# Altium footprint library PCB.PCBLIB: 320 footprints (part 17 of 20)
Each footprint in its own frame and in the unit in brackets; x right, y up, seen from the top. Pads: shape width x height; smd on the part's side, far side on the other; paste and mask are expansions set on the pad; w line width, h text height; cw(c..) or ccw(c..) is an arc to the next point about the centre after c.
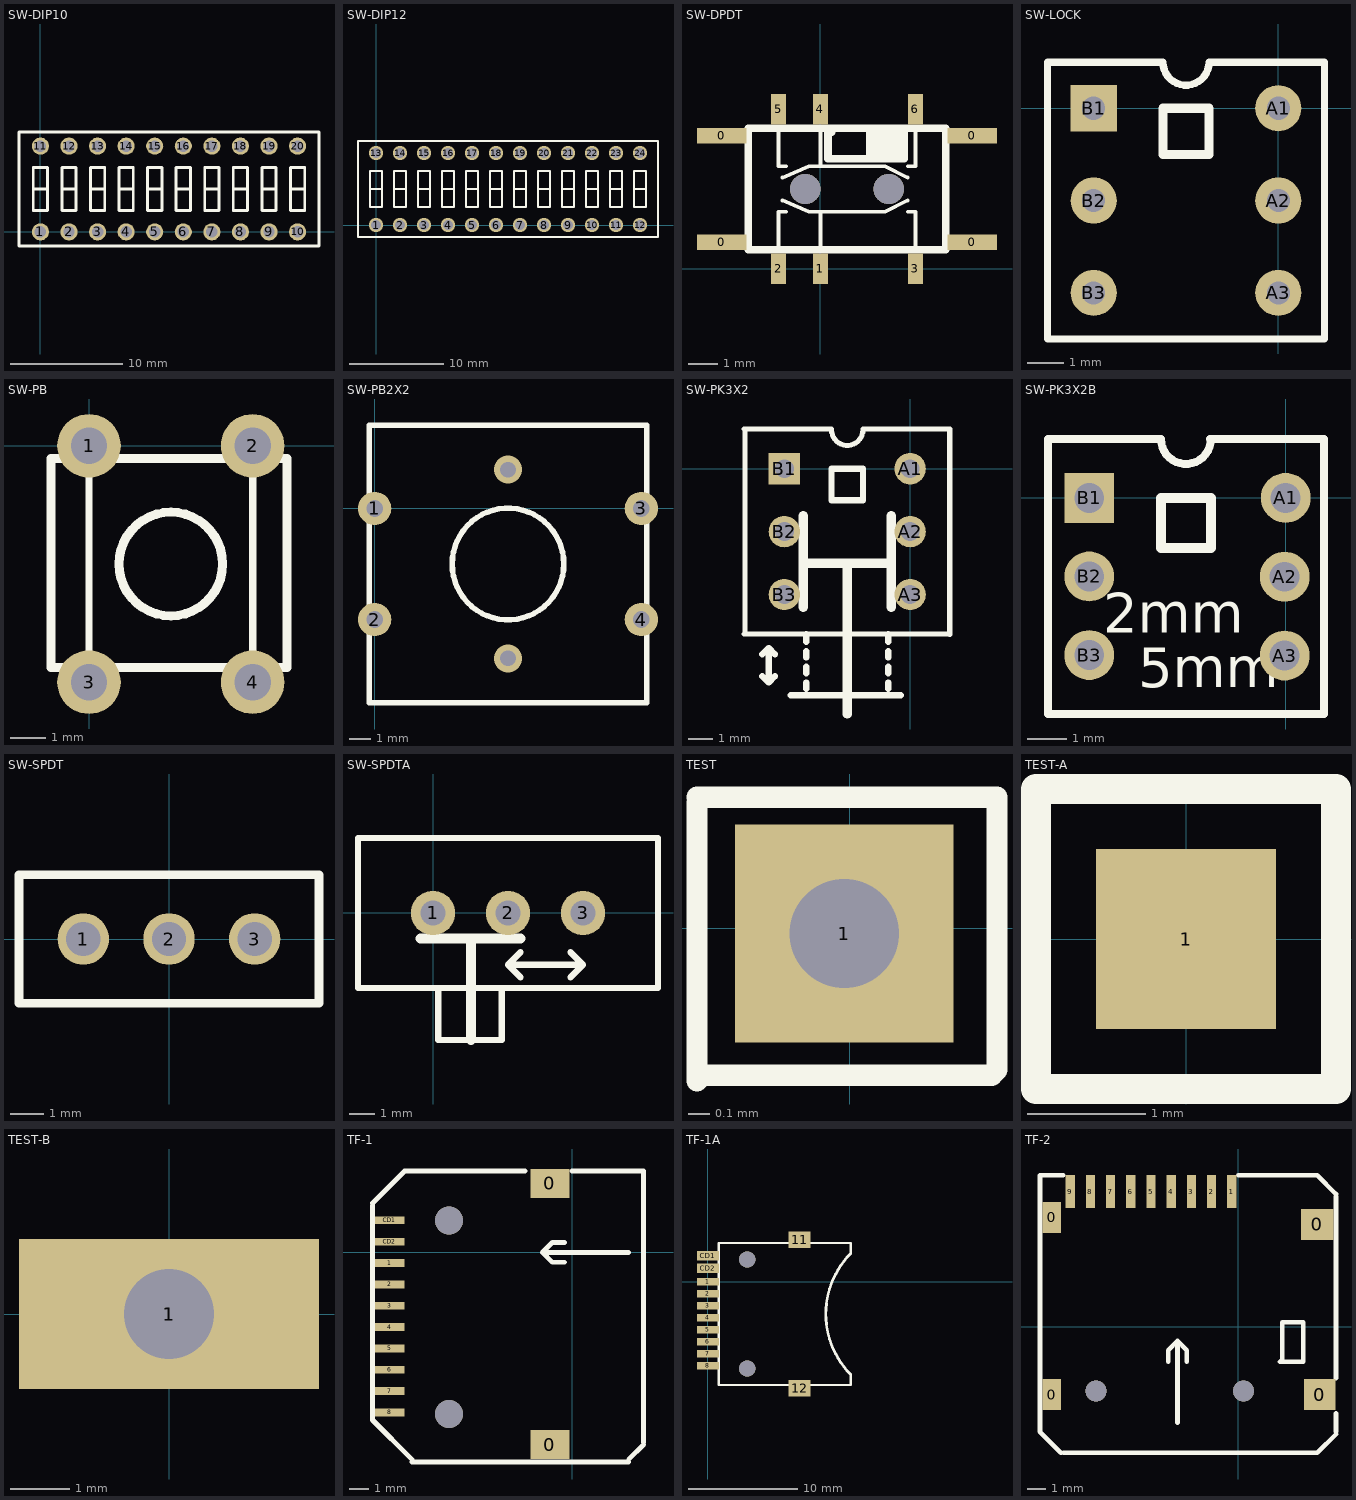
[diagram p16: the footprints below, top view; thin cyan lines are the x and y axes]

## SW-DIP10 [mil]
pads (20):
  round 60 hole 40: 1(0,0) 2(100,0) 3(200,0) 4(300,0) 5(400,0) 6(500,0) 7(600,0) 8(700,0) 9(800,0) 10(900,0) 11(0,300) 12(100,300) 13(200,300) 14(300,300) 15(400,300) 16(500,300) 17(600,300) 18(700,300) 19(800,300) 20(900,300)
TopOverlay:
  lines w10: 25,150 -25,150 -25,225 ; 125,150 75,150 75,225 ; 225,150 175,150 175,225 ; 325,150 275,150 275,225 ; 425,150 375,150 375,225 ; 525,150 475,150 475,225 ; 625,150 575,150 575,225 ; 725,150 675,150 675,225 ; 825,150 775,150 775,225 ; 925,150 875,150 875,225 ; -25,225 -25,75 25,75 25,225 -25,225 ; 75,225 75,75 125,75 125,225 75,225 ; 175,225 175,75 225,75 225,225 175,225 ; 275,225 275,75 325,75 325,225 275,225 ; 375,225 375,75 425,75 425,225 375,225 ; 475,225 475,75 525,75 525,225 475,225 ; 575,225 575,75 625,75 625,225 575,225 ; 675,225 675,75 725,75 725,225 675,225 ; 775,225 775,75 825,75 825,225 775,225 ; 875,225 875,75 925,75 925,225 875,225 ; -75,-50 975,-50 975,350 -75,350 -75,-50

## SW-DIP12 [mil]
pads (24):
  round 60 hole 40: 1(0,0) 2(100,0) 3(200,0) 4(300,0) 5(400,0) 6(500,0) 7(600,0) 8(700,0) 9(800,0) 10(900,0) 11(1000,0) 12(1100,0) 13(0,300) 14(100,300) 15(200,300) 16(300,300) 17(400,300) 18(500,300) 19(600,300) 20(700,300) 21(800,300) 22(900,300) 23(1000,300) 24(1100,300)
TopOverlay:
  lines w10: 25,150 -25,150 -25,225 ; 125,150 75,150 75,225 ; 225,150 175,150 175,225 ; 325,150 275,150 275,225 ; 425,150 375,150 375,225 ; 525,150 475,150 475,225 ; 625,150 575,150 575,225 ; 725,150 675,150 675,225 ; 825,150 775,150 775,225 ; 925,150 875,150 875,225 ; 1025,150 975,150 975,225 ; 1125,150 1075,150 1075,225 ; -25,225 -25,75 25,75 25,225 -25,225 ; 75,225 75,75 125,75 125,225 75,225 ; 175,225 175,75 225,75 225,225 175,225 ; 275,225 275,75 325,75 325,225 275,225 ; 375,225 375,75 425,75 425,225 375,225 ; 475,225 475,75 525,75 525,225 475,225 ; 575,225 575,75 625,75 625,225 575,225 ; 675,225 675,75 725,75 725,225 675,225 ; 775,225 775,75 825,75 825,225 775,225 ; 875,225 875,75 925,75 925,225 875,225 ; 975,225 975,75 1025,75 1025,225 975,225 ; 1075,225 1075,75 1125,75 1125,225 1075,225 ; -75,-50 1175,-50 1175,350 -75,350 -75,-50

## SW-DPDT [mil]
pads (10):
  rect 65x20 smd: 0(-130,35) 0(-130,175) 0(200,35) 0(200,175)
  rect 20x40 smd: 1(0,0) 2(-55,0) 3(125,0) 4(0,210) 5(-55,210) 6(125,210)
via 90,105 diameter 40 hole 40
via -20,105 diameter 40 hole 40
TopOverlay:
  lines w5: -55,25 -55,75 -45,75 ; -55,185 -55,135 -45,135 ; -50,90 -15,75 85,75 115,90 ; -50,120 -15,135 0,135 ; 0,25 0,75 ; 0,185 0,135 ; 90,180 95,180 ; 115,75 125,75 125,25 ; 115,120 85,135 0,135 ; 115,135 125,135 125,185
  lines w10: 15,180 10,180 10,145 110,145 110,180 ; 65,145 65,180 ; 100,145 100,180 90,180 90,145 80,145 80,180 70,180 70,145 105,145 105,180 ; -95,25 -95,185 165,185 165,25 -95,25

## SW-LOCK [mil]
pads (6):
  round 50 hole 25: A1(0,0) A2(0,-100) A3(0,-200) B2(-200,-100) B3(-200,-200)
  rect 50x50 hole 25: B1(-200,0)
TopOverlay:
  lines w8: -250,-250 50,-250 50,50 -75,50 cw(c-100,50) -125,50 -250,50 -250,-250
  lines w10: -125,-50 -75,-50 -75,0 -125,0 -125,-50

## SW-PB [mil]
pads (4):
  round 70 hole 40: 1(0,0) 2(180,0) 3(0,-260) 4(180,-260)
TopOverlay:
  circle w10: c89.99,-130 r57.01
  lines w8: 0,-225 0,-35 ; 180,-225 180,-35
  lines w10: -42,-244 -42,-14 218,-14 218,-244 -42,-244

## SW-PB2X2 [mil]
pads (4):
  round 60 hole 30: 1(0,0) 2(0,-200) 3(480,0) 4(480,-200)
via 240,-270 diameter 50 hole 28
via 240,70 diameter 50 hole 28
TopOverlay:
  circle w10: c240,-100 r100.5
  lines w10: -10,-350 490,-350 490,150 240,150 -10,150 -10,-350

## SW-PK3X2 [mil]
pads (6):
  round 50 hole 30: A1(0,0) A2(0,-100) A3(0,-200) B2(-200,-100) B3(-200,-200)
  rect 50x50 hole 30: B1(-200,0)
TopOverlay:
  lines w8: -263.78,-262.8 62.99,-262.8 ; -263.78,62.99 -125,62.99 ; -262.8,-261.81 -262.8,61.02 ; -125,62.01 ccw(c-100,62.01) -75,62.01 ; -75,62.99 62.99,62.99 62.99,-263.78
  lines w10: -235,-330 -225,-340 ; -235,-295 -225,-285 ; -215,-330 -225,-340 ; -215,-295 -225,-285 ; -190,-360 -15,-360 ; -165,-350 -165,-340 ; -165,-325 -165,-315 ; -165,-300 -165,-290 ; -165,-270 -165,-275 -165,-262.8 ; -35,-350 -35,-340 ; -35,-325 -35,-315 ; -35,-300 -35,-290 ; -35,-275 -35,-262.8 ; -225,-340 -225,-285 ; -125,-50 -75,-50 -75,0 -125,0 -125,-50
  lines w15: -170,-220 -170,-75 ; -170,-150 -35,-150 ; -100,-390 -100,-150 ; -30,-220 -30,-75

## SW-PK3X2B [mil]
pads (6):
  round 50 hole 30: A1(0,0) A2(-1,-79) A3(-1,-158) B2(-196.85,-78.74) B3(-196.85,-157.48)
  rect 50x50 hole 30: B1(-196.85,0)
TopOverlay:
  lines w8: -238.19,-216.53 -238.19,59.05 ; -238,59.05 -125,59.05 ccw(c-100,59.05) -75,59.05 ; -237.21,-216.53 37.8,-216.53 ; -75.8,59.05 36,59.05 ; 38.39,-216.53 38.39,59.05
  lines w10: -125,-50 -75,-50 -75,0 -125,0 -125,-50
  text "2mm" at -183,-135 h40
  text "5mm" at -147.64,-189.96 h40

## SW-SPDT [mil]
pads (3):
  round 60 hole 40: 1(-100,0) 2(0,0) 3(100,0)
TopOverlay:
  lines w10: -175,-75 -175,75 175,75 175,-75 -175,-75

## SW-SPDTA [mil]
pads (3):
  round 70 hole 40: 1(0,0) 2(118.11,0) 3(236.22,0)
TopOverlay:
  lines w10: 8.11,-118.11 8.11,-200 108.11,-200 108.11,-118.11 ; 137.79,-100.94 118.11,-81.26 ; 137.79,-61.58 118.11,-81.26 ; 216.53,-100.94 236.22,-81.26 ; 216.53,-61.58 236.22,-81.26 ; 118.11,-81.26 236.22,-81.26 ; -118.11,-118.11 354.33,-118.11 354.33,118.11 118.11,118.11 -118.11,118.11 -118.11,-118.11
  lines w15.75: -20,-40 137.48,-40 ; 60,-200 60,-40.95

## TEST [mil]
pads (1):
  rect 40x40 hole 20: 1(-1,-1)
TopOverlay:
  lines w3.94: -28,23 -28,-28 -27,-27 26,-27 27,-26 27,24 -28,24

## TEST-A [mil]
pads (1):
  rect 60x60 smd: 1(0,0)
TopOverlay:
  lines w10: -50,-50 50,-50 50,50 -50,50 -50,-50

## TEST-B [mil]
pads (2):
  rect 200x100 on Top hole 60: 1(0,0)
  rect 200x100 on Bottom hole 60: 1(0,0)

## TF-1 [mm]
pads (12):
  rect 2x1.5 smd: 0(-1.143,-9.906) 0(-1.143,3.556)
  rect 1.5x0.4 smd: 1(-9.398,-0.549) 2(-9.398,-1.649) 3(-9.398,-2.749) 4(-9.398,-3.849) 5(-9.398,-4.949) 6(-9.398,-6.049) 7(-9.398,-7.149) 8(-9.398,-8.249) CD1(-9.398,1.651) CD2(-9.398,0.551)
via -6.35,-8.33 diameter 1.45 hole 1.45
via -6.35,1.651 diameter 1.45 hole 1.45
TopOverlay:
  lines w0.254: -10.287,2.413 -10.287,-8.636 -8.255,-10.668 ; -10.287,2.54 -8.636,4.191 -2.413,4.191 ; -8.255,-10.795 2.921,-10.795 ; -0.381,-0.508 -1.016,-0.508 -1.524,0 ; -0.381,0.508 -1.016,0.508 -1.524,0 ; 0,4.191 3.683,4.191 3.683,-9.779 ; 2.921,-10.668 3.683,-9.906 ; 2.921,0 -1.524,0

## TF-1A [mm]
pads (14):
  rect 2x0.7 smd: 1(0,0) 2(0,-1.1) 3(0,-2.2) 4(0,-3.3) 5(0,-4.4) 6(0,-5.5) 7(0,-6.6) 8(0,-7.7)
  rect 2x1.5 smd: 11(8.4,3.87) 12(8.4,-9.77)
  rect 2x0.85 smd: CD1(0,2.4) CD2(0,1.25)
  round 1.5 hole 1.5 unplated: ""(3.6,-7.95)
  round 1.5 hole 1.5: ""(3.6,2.05)
TopOverlay:
  lines w0.2: 13.1,-8.5 13.1,-9.465 1,-9.465 1,3.565 13.1,3.565 13.1,2.6
  lines w0.254: 13.1,-8.5 cw(c18.65,-2.95) 13.1,2.6

## TF-2 [mm]
pads (13):
  rect 1x1.7 smd: 0(-10.16,-3.683) 0(-10.16,5.969)
  rect 1.778x1.7 smd: 0(4.318,5.588)
  rect 1.7x1.7 smd: 0(4.445,-3.683)
  rect 0.5x1.8 smd: 1(-0.344,7.366) 2(-1.444,7.366) 3(-2.544,7.366) 4(-3.644,7.366) 5(-4.744,7.366) 6(-5.844,7.366) 7(-6.944,7.366) 8(-8.044,7.366) 9(-9.144,7.366)
via -7.747,-3.479 diameter 1.143 hole 1.143
via 0.304,-3.479 diameter 1.143 hole 1.143
TopOverlay:
  lines w0.254: -9.652,-6.858 -10.795,-5.715 -10.795,8.255 -9.525,8.255 ; -9.525,-6.858 4.064,-6.858 4.318,-6.858 5.334,-5.842 ; -3.81,-1.905 -3.81,-1.27 -3.302,-0.762 ; -3.302,-5.207 -3.302,-0.762 ; -2.794,-1.905 -2.794,-1.27 -3.302,-0.762 ; 0,8.255 4.318,8.255 5.334,7.239 ; 5.334,-5.715 5.334,-4.699 ; 5.334,-2.794 5.334,7.112 ; 2.286,-1.905 3.556,-1.905 3.556,0.254 2.413,0.254 2.413,-1.778 2.286,-1.905